# Altium schematic symbol library AltiumDesigner.SchLib: 2 symbols
Pins are listed as number, name and electrical type; pins without a type are passive.

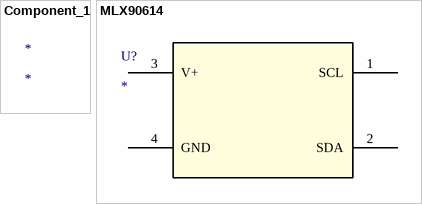
[diagram p0: symbols Component_1 to MLX90614]

## Component_1
designator *

## MLX90614
designator U?
Temp Sensor IR; Manufacturer_Part_Number: OP77FJZ; Vendor: Analog Devices Inc; Built_By: EMA_UL_Team; RefDes: RefDes; Type: DEV; Value: Value
footprint H_08_1
pins: 1 SCL, 2 SDA, 3 V+, 4 GND